# Altium schematic symbol library Deans jack.SchLib: 2 symbols
Pins are listed as number, name and electrical type; pins without a type are passive.

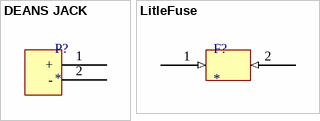
[diagram p0: symbols DEANS JACK to LitleFuse]

## DEANS JACK
designator P?
footprint Deans Jack
pins: 1 + (power), 2 - (power)

## LitleFuse
designator F?
footprint LitleFuse (Molded Capacitor, 2-Leads, Body 9,75x4,65mm, IPC Medium Density)
pins: 1 (in), 2 (in)